# EAGLE library part DS600 (library gw10)
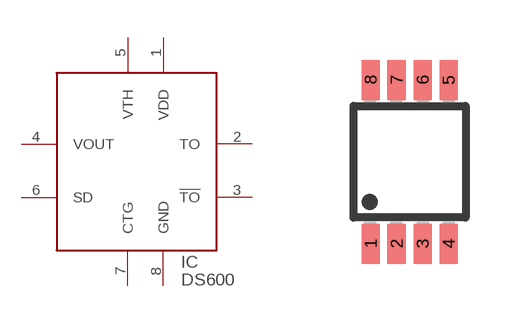
[diagram p3: symbol with the pads of MSOP8; footprint MSOP8]

Designator prefix IC

## DS600  [MSOP8]
1  VDD  pwr
2  TO  oc
3  !TO  oc
4  VOUT  out
5  VTH  in
6  SD  in
7  CTG  pwr
8  GND  pwr

## Footprint MSOP8 (pad centres in mm)
Micro Small Outline Package Grid .65mm
smd 0.45 x 1: 1 -0.975,-2.05; 2 -0.325,-2.05; 3 0.325,-2.05; 4 0.975,-2.05; 5 0.975,2.05; 6 0.325,2.05; 7 -0.325,2.05; 8 -0.975,2.05